# EAGLE library part RJ-11 (library thecustomgeek)
Part 43860-0002 from Molex. Right angle, through hole RJ-11 Jack.
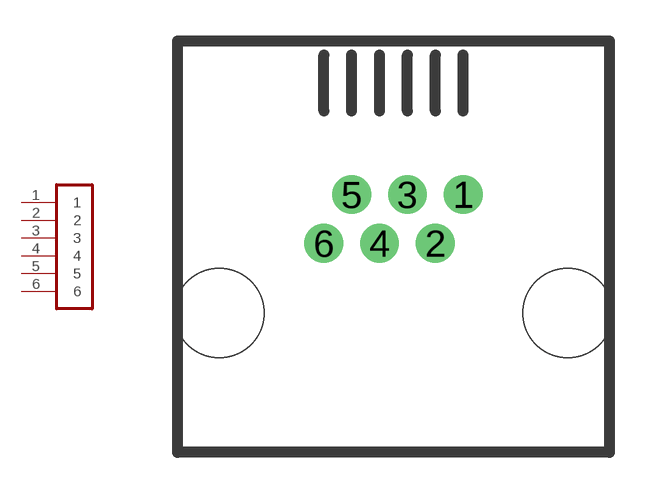
[diagram p4: symbol with the pads of RJ-11; footprint RJ-11]

Designator prefix -

## RJ-11  [RJ-11]
1  1
2  2
3  3
4  4
5  5
6  6

## Footprint RJ-11 (pad centres in mm)
drill 0.9: 1 0,0; 2 -1.016,-1.778; 3 -2.032,0; 4 -3.048,-1.778; 5 -4.064,0; 6 -5.08,-1.778
hole 3.251 at 3.81,-4.318
hole 3.251 at -8.89,-4.318